# EAGLE library part SWITCH_DIP_8 (library APU_ENGR480_UPS_EAGLE_Library)
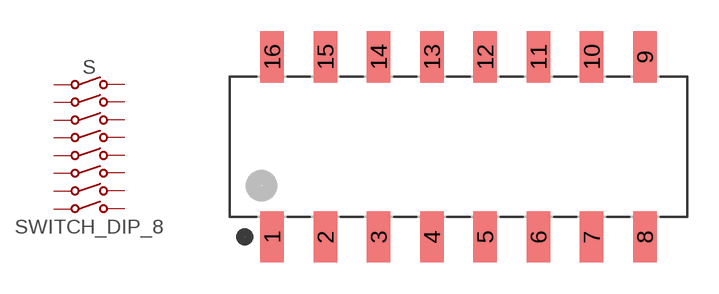
[diagram p10: symbol with the pads of CTS_219-8LPSTRF; footprint CTS_219-8LPSTRF]

Designator prefix S

## SWITCH_DIP_8  [CTS_219-8LPSTRF]
1  SW1_A
2  SW2_A
3  SW3_A
4  SW4_A
5  SW5_A
6  SW6_A
7  SW7_A
8  SW8_A
9  SW8_B
10  SW7_B
11  SW6_B
12  SW5_B
13  SW4_B
14  SW3_B
15  SW2_B
16  SW1_B

## Footprint CTS_219-8LPSTRF (pad centres in mm)
Switch; 16 pin, 21.79 mm L X 6.70 mm W X 3.85 mm H body PCB Libraries Packages
smd 1.13 x 2.44: 1 -8.89,-4.3; 2 -6.35,-4.3; 3 -3.81,-4.3; 4 -1.27,-4.3; 5 1.27,-4.3; 6 3.81,-4.3; 7 6.35,-4.3; 8 8.89,-4.3; 9 8.89,4.3; 10 6.35,4.3; 11 3.81,4.3; 12 1.27,4.3; 13 -1.27,4.3; 14 -3.81,4.3; 15 -6.35,4.3; 16 -8.89,4.3